# EAGLE library part TCA8418RTWR (library EW_IC_Drivers)
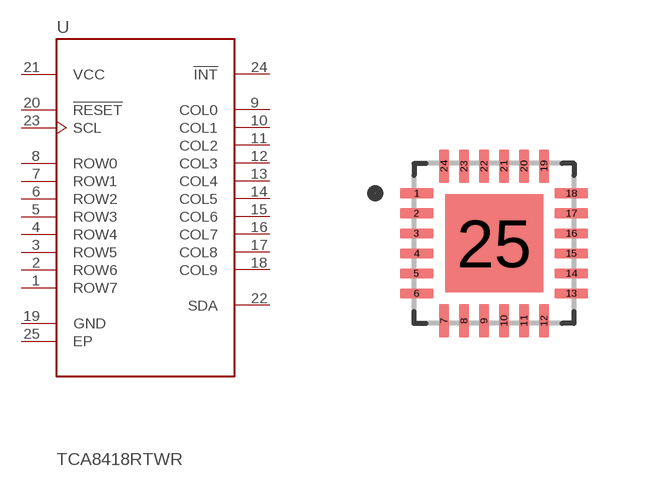
[diagram p169: symbol with the pads of QFN50P400X400X80-25N; footprint QFN50P400X400X80-25N]

Designator prefix U

## TCA8418RTWR (DESCRIPTION: I2C Controlled Keypad Scan IC With Integrated ESD Protection 24-WQFN -40 to 85; DIGI-KEY_PART_NUMBER: 296-25223-1-ND; MF: Texas Instruments; MP: TCA8418RTWR; PACKAGE: WQFN-24 Texas Instruments; PURCHASE-URL: https://pricing.snapeda.com/search/part/TCA8418RTWR/?ref=eda)  [QFN50P400X400X80-25N]
1  ROW7
2  ROW6
3  ROW5
4  ROW4
5  ROW3
6  ROW2
7  ROW1
8  ROW0
9  COL0
10  COL1
11  COL2
12  COL3
13  COL4
14  COL5
15  COL6
16  COL7
17  COL8
18  COL9
19  GND  pwr
20  !RESET  in
21  VCC  pwr
22  SDA
23  SCL  in
24  !INT  out
25  EP  pas

## Footprint QFN50P400X400X80-25N (pad centres in mm)
smd 0.84 x 0.26: 1 -1.935,1.25; 2 -1.935,0.75; 3 -1.935,0.25; 4 -1.935,-0.25; 5 -1.935,-0.75; 6 -1.935,-1.25; 13 1.935,-1.25; 14 1.935,-0.75; 15 1.935,-0.25; 16 1.935,0.25; 17 1.935,0.75; 18 1.935,1.25
smd 0.26 x 0.84: 7 -1.25,-1.935; 8 -0.75,-1.935; 9 -0.25,-1.935; 10 0.25,-1.935; 11 0.75,-1.935; 12 1.25,-1.935; 19 1.25,1.935; 20 0.75,1.935; 21 0.25,1.935; 22 -0.25,1.935; 23 -0.75,1.935; 24 -1.25,1.935
smd 2.45 x 2.45: 25 0,0